# Altium footprint library Chip Components.PcbLib: 38 footprints (part 3 of 3)
Each footprint in its own frame and in the unit in brackets; x right, y up, seen from the top. Pads: shape width x height; smd on the part's side, far side on the other; paste and mask are expansions set on the pad; w line width, h text height; cw(c..) or ccw(c..) is an arc to the next point about the centre after c.
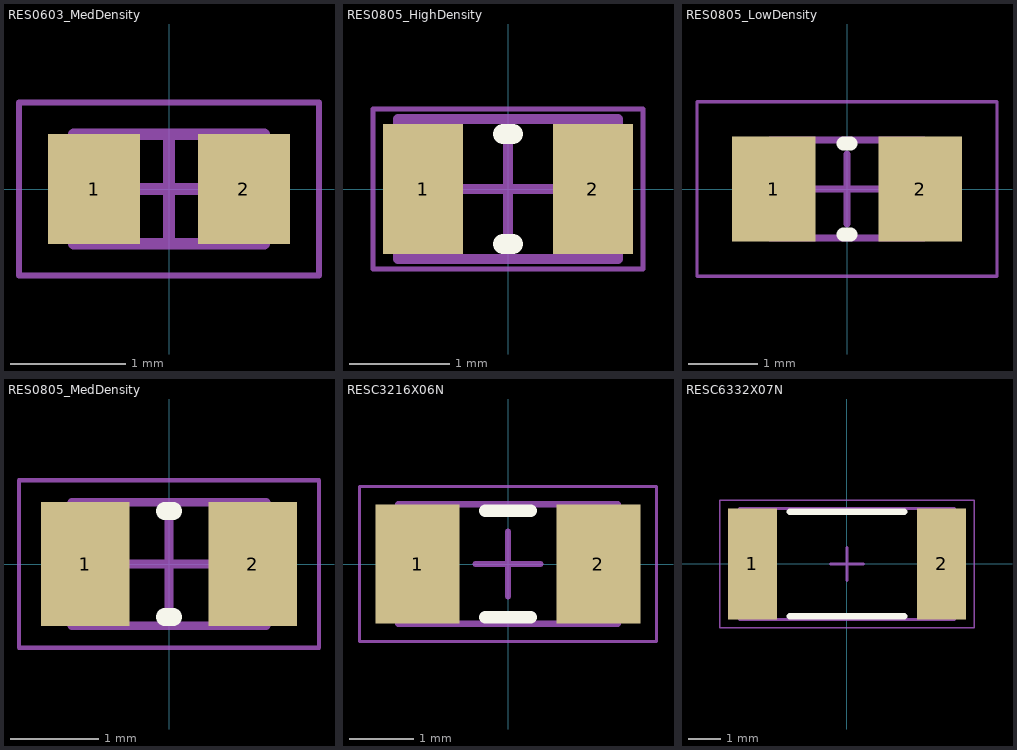
[diagram p2: the footprints below, top view; thin cyan lines are the x and y axes]

## RES0603_MedDensity [mm] "Chip Resistor, 2-Leads, Body 1,57x0,85mm, IPC Medium Density"
height 0.5
pads (2):
  rect 0.8x0.95 smd: 1(-0.65,0) 2(0.65,0)
Mechanical 13:
  lines w0.1: -0.825,-0.475 0.825,-0.475 0.825,0.475 -0.825,0.475 -0.825,-0.475
Mechanical 15:
  lines w0.05: -1.3,-0.75 1.3,-0.75 1.3,0.75 -1.3,0.75 -1.3,-0.75
  lines w0.1: -0.475,0 0.475,0 ; 0,-0.475 0,0.475
3D body "RESC1608X05N.step": height 0.5, standoff 0, extent -0.825,-0.475 0.825,0.475

## RES0805_HighDensity [mm] "Chip Resistor, 2-Leads, Body 2,05x1,25mm, IPC High Density"
height 0.5
pads (2):
  rect 0.8x1.3 smd: 1(-0.85,0) 2(0.85,0)
Top Overlay:
  lines w0.2: -0.05,-0.55 0.05,-0.55 ; -0.05,0.55 0.05,0.55
Mechanical 13:
  lines w0.1: -1.1,-0.7 1.1,-0.7 1.1,0.7 -1.1,0.7 -1.1,-0.7
Mechanical 15:
  lines w0.05: -1.35,-0.8 1.35,-0.8 1.35,0.8 -1.35,0.8 -1.35,-0.8
  lines w0.1: -0.5,0 0.5,0 ; 0,-0.5 0,0.5
3D body "RESC2112X05L.step": height 0.5, standoff 0, extent -1.1,-0.7 1.1,0.7

## RES0805_LowDensity [mm] "Chip Resistor, 2-Leads, Body 2,05x1,25mm, IPC Low Density"
height 0.5
pads (2):
  rect 1.2x1.5 smd: 1(-1.05,0) 2(1.05,0)
Top Overlay:
  lines w0.2: -0.05,-0.65 0.05,-0.65 ; -0.05,0.65 0.05,0.65
Mechanical 13:
  lines w0.1: -1.1,-0.7 1.1,-0.7 1.1,0.7 -1.1,0.7 -1.1,-0.7
Mechanical 15:
  lines w0.05: -2.15,-1.25 2.15,-1.25 2.15,1.25 -2.15,1.25 -2.15,-1.25
  lines w0.1: -0.5,0 0.5,0 ; 0,-0.5 0,0.5
3D body "RESC2112X05M.step": height 0.5, standoff 0, extent -1.1,-0.7 1.1,0.7

## RES0805_MedDensity [mm] "Chip Resistor, 2-Leads, Body 2,05x1,25mm, IPC Medium Density"
height 0.5
pads (2):
  rect 1x1.4 smd: 1(-0.95,0) 2(0.95,0)
Top Overlay:
  lines w0.2: -0.05,-0.6 0.05,-0.6 ; -0.05,0.6 0.05,0.6
Mechanical 13:
  lines w0.1: -1.1,-0.7 1.1,-0.7 1.1,0.7 -1.1,0.7 -1.1,-0.7
Mechanical 15:
  lines w0.05: -1.7,-0.95 1.7,-0.95 1.7,0.95 -1.7,0.95 -1.7,-0.95
  lines w0.1: -0.5,0 0.5,0 ; 0,-0.5 0,0.5
3D body "RESC2112X05N.step": height 0.5, standoff 0, extent -1.1,-0.7 1.1,0.7

## RESC3216X06N [mm] "Chip Resistor, 2-Leads, Body 3,20x1,60mm, IPC Medium Density"
height 0.55
pads (2):
  rect 1.3x1.85 smd: 1(-1.4,0) 2(1.4,0)
Top Overlay:
  lines w0.2: -0.35,-0.825 0.35,-0.825 ; -0.35,0.825 0.35,0.825
Mechanical 13:
  lines w0.1: -1.7,-0.925 1.7,-0.925 1.7,0.925 -1.7,0.925 -1.7,-0.925
Mechanical 15:
  lines w0.05: -2.3,-1.2 2.3,-1.2 2.3,1.2 -2.3,1.2 -2.3,-1.2
  lines w0.1: -0.5,0 0.5,0 ; 0,-0.5 0,0.5
3D body "RESC3216X06N.step": height 0.55, standoff 0, extent -1.7,-0.925 1.7,0.925

## RESC6332X07N [mm] "Chip Resistor, 2-Leads, Body 6,30x3,20mm, IPC Medium Density"
height 0.7
pads (2):
  rect 1.5x3.4 smd: 1(-2.9,0) 2(2.9,0)
Top Overlay:
  lines w0.2: -1.75,-1.6 1.75,-1.6 ; -1.75,1.6 1.75,1.6
Mechanical 13:
  lines w0.1: -3.3,-1.7 3.3,-1.7 3.3,1.7 -3.3,1.7 -3.3,-1.7
Mechanical 15:
  lines w0.05: -3.9,-1.95 3.9,-1.95 3.9,1.95 -3.9,1.95 -3.9,-1.95
  lines w0.1: -0.5,0 0.5,0 ; 0,-0.5 0,0.5
3D body "RESC6332X07N.step": height 0.7, standoff 0, extent -3.3,-1.7 3.3,1.7